# Altium schematic symbol library RSL10_SchLib.SchLib: 24 symbols
Pins are listed as number, name and electrical type; pins without a type are passive.

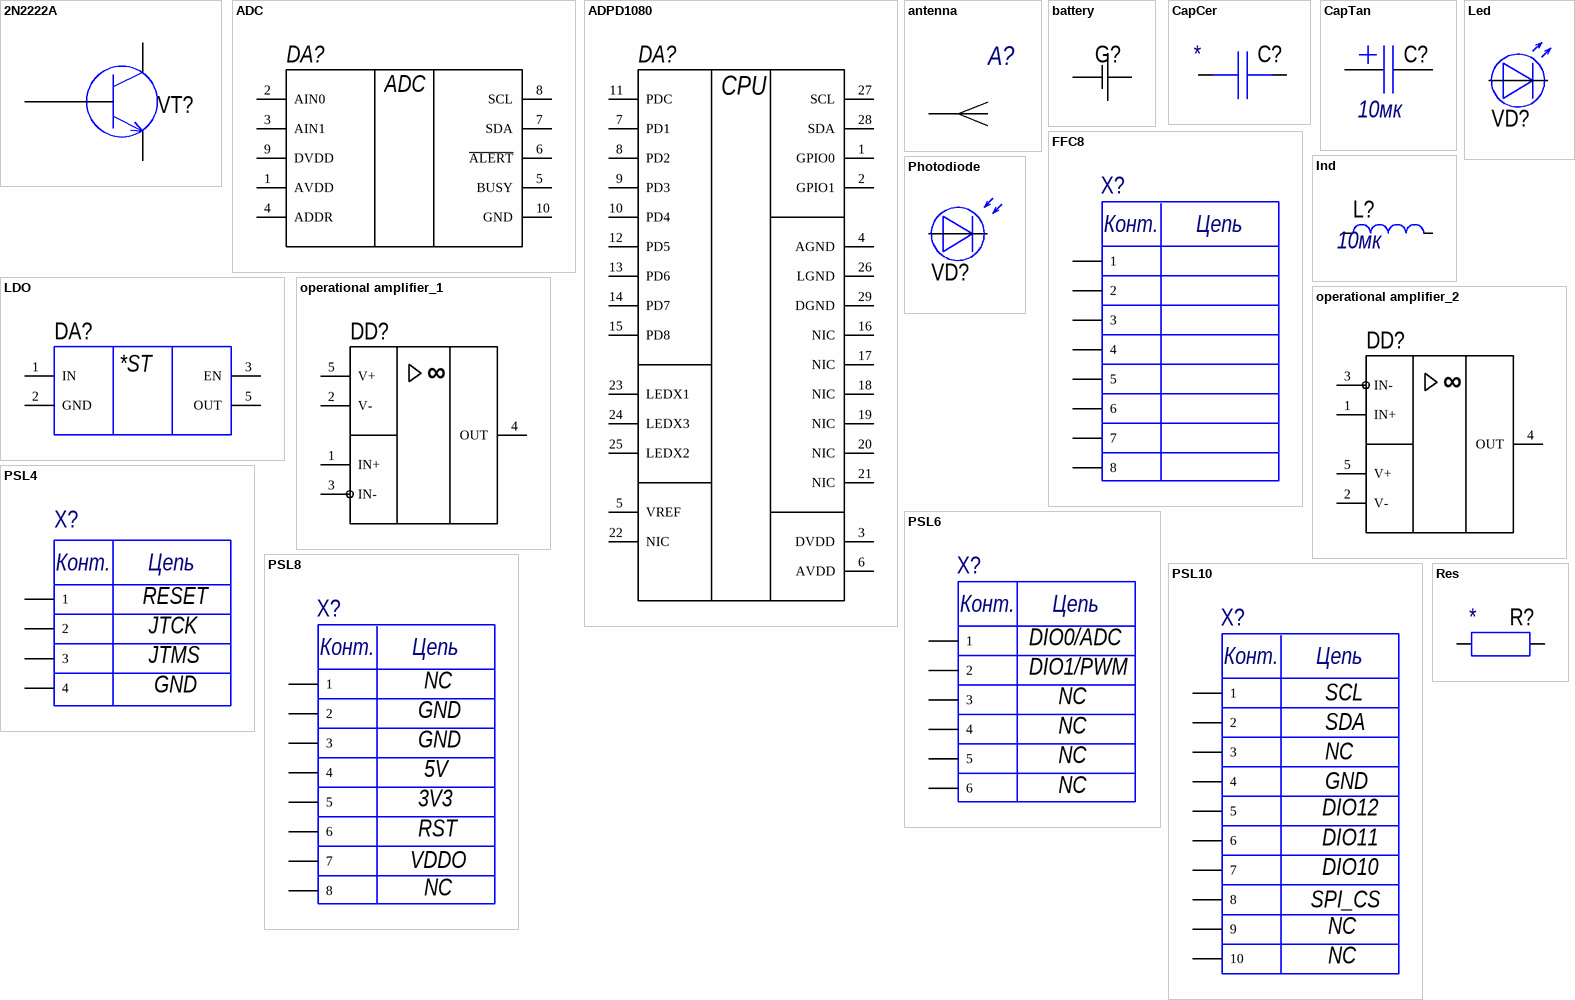
[diagram p0: symbols 2N2222A to Res]

## 2N2222A
designator VT?
NPN транзистор; manufacture: аА0.339.092ТУ; Name_main: 2N2222A; Name: Транзистор
pins: 1, 2, 3

## ADC
designator DA?  (value not drawn)
footprint ADS7142IRUGT
pins: 1 AVDD, 2 AIN0, 3 AIN1, 4 ADDR, 5 BUSY, 6 ~{ALERT}, 7 SDA, 8 SCL, 9 DVDD, 10 GND

## ADPD1080
designator DA?  (value not drawn)
name_main: ADPD1080WBCPZR7
footprint ADPD1080
pins: 1 GPIO0, 2 GPIO1, 3 DVDD, 4 AGND, 5 VREF, 6 AVDD, 7 PD1, 8 PD2, 9 PD3, 10 PD4, 11 PDC, 12 PD5, 13 PD6, 14 PD7, 15 PD8, 16 NIC, 17 NIC, 18 NIC, 19 NIC, 20 NIC, 21 NIC, 22 NIC, 23 LEDX1, 24 LEDX3, 25 LEDX2, 26 LGND, 27 SCL, 28 SDA, 29 DGND
text: CPU

## antenna
designator A?, comment Обозначение при заказе  (value not drawn)
Описание свойств компонента
footprint antenna
pins: 1

## battery
designator G?  (value not drawn)
footprint Battery
pins: Neg, Pos

## CapCer
designator C?
Керамический конденсатор; manufacture: ОЖО.460.107ТУ; name_main: К10-17в-Н90-; Units: Ф; Name: Керамический конденсатор; Value: *
footprint cap0603
footprint CAP0805
footprint cap0402
pins: 1, 2

## CapTan
designator C?, comment 10мк
Танталовый конденсатор; manufacture: АЖЯР.673546.004ТУ; name_main: К53-65-16В-; Units: Ф; Footpr: "E"; Name: Танталовый конденсатор; Value: 10мк
pins: 1, 2
1 alternate drawing of the same symbol

## FFC8
designator X?
manufacture: 2328702-8; name: Разъемы; name_main: FFC-8
footprint FFC8
pins: 1, 2, 3, 4, 5, 6, 7, 8
text: Конт.; Цепь

## Ind
designator L?, comment 10мк
Катушка индуктивности; Units: Гн; name_main: MLZ1608M100WT000; Name: Катушка индуктивности; Value: 10мк
footprint MLZ1608M100WT000
footprint IND0402
pins: 1, 2

## LDO
designator DA?
name: Микросхема; name_main: TPS7A0218PDBVR
footprint TPS7A02
pins: 1 IN, 2 GND, 3 EN, 5 OUT
text: *ST

## Led
designator VD?
Излучатель; manufacture: аА0.339.189ТУ; Name: Индикатор; Name_main: 15412094A9000
footprint LED1206
pins: A, K

## operational amplifier_1
designator DD?  (value not drawn)
Операционный усилитель; main_name: OPA333AIDBVR
footprint OPA333
pins: 1 IN+, 2 V-, 3 IN-, 4 OUT, 5 V+
text: ∞

## operational amplifier_2
designator DD?  (value not drawn)
Операционный усилитель; main_name: OPA333AIDBVR
footprint OPA333
pins: 1 IN+, 2 V-, 3 IN-, 4 OUT, 5 V+
text: ∞

## Photodiode
designator VD?
Photodiode; manufacture: аА0.339.189ТУ; Name: Индикатор; Name_main: 3Л341Б
footprint SFH2703
pins: 1, 2

## PSL4
designator X?
manufacture: БСАР.430420.014ТУ; name: Разъемы; name_main: PLS-6
footprint PSL_4
pins: 1, 2, 3, 4
text: Конт.; Цепь; RESET; JTCK; JTMS; GND

## PSL6
designator X?
manufacture: БСАР.430420.014ТУ; name: Разъемы; name_main: PLS-6
footprint PSL_6
pins: 1, 2, 3, 4, 5, 6
text: Конт.; Цепь; DIO0/ADC; DIO1/PWM; NC

## PSL8
designator X?
manufacture: БСАР.430420.014ТУ; name: Разъемы; name_main: PLS-8
footprint PSL_8
pins: 1, 2, 3, 4, 5, 6, 7, 8
text: Конт.; Цепь; NC; GND; 5V; 3V3; RST; VDDO

## PSL10
designator X?
manufacture: БСАР.430420.014ТУ; name: Разъемы; name_main: PLS-10
footprint PSL_10
pins: 1, 2, 3, 4, 5, 6, 7, 8, 9, 10
text: Конт.; Цепь; SCL; SDA; NC; GND; DIO12; DIO11; DIO10; SPI_CS

## Res
designator R?
Резистор; Manufacturer: АЛЯР.434110.005ТУ; Tolerance: 5%; name_main: Р1-12-0,1-; Name: Резистор; Value: *
footprint Res0603
footprint RES0402
pins: 1, 2

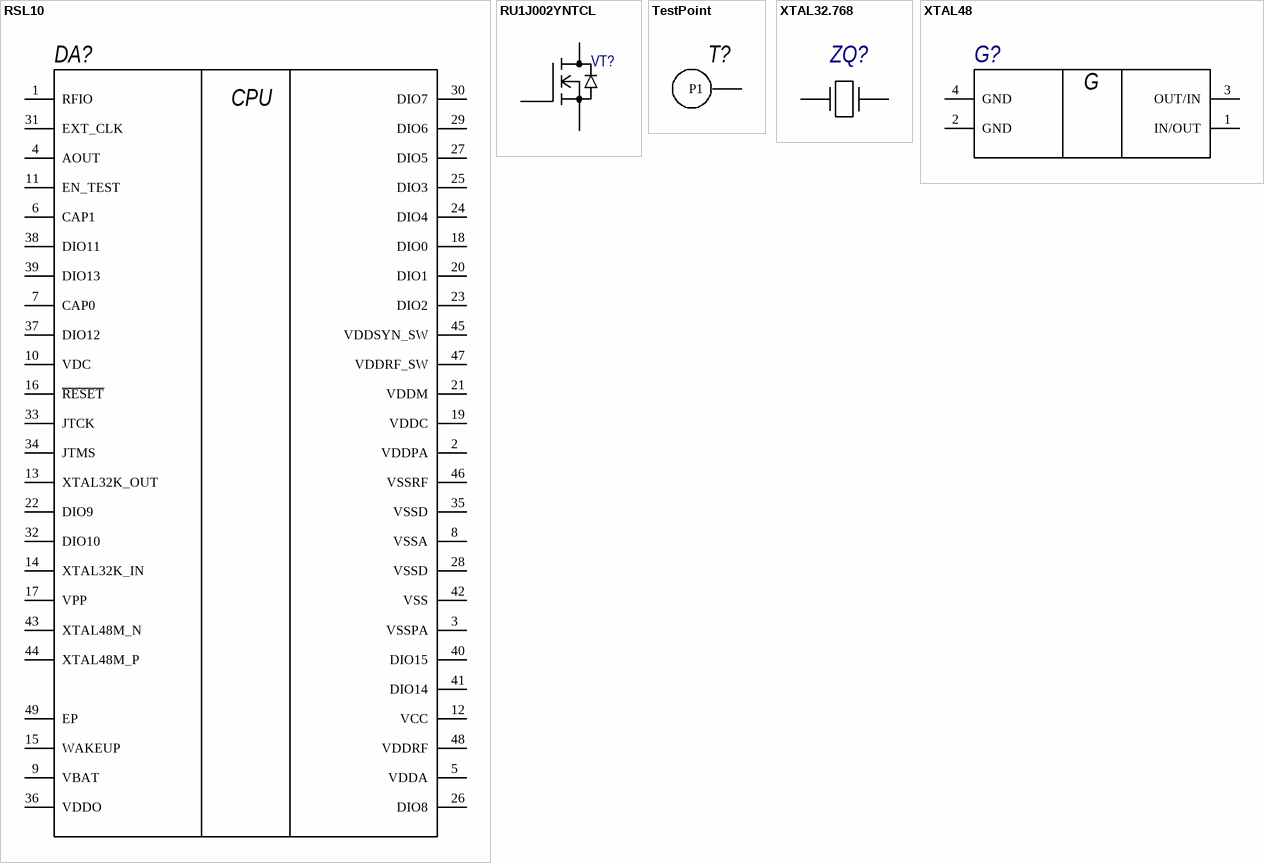
[diagram p1: symbols RSL10 to XTAL48]

## RSL10
designator DA?  (value not drawn)
footprint RSL10
pins: 1 RFIO, 2 VDDPA, 3 VSSPA, 4 AOUT, 5 VDDA, 6 CAP1, 7 CAP0, 8 VSSA, 9 VBAT, 10 VDC, 11 EN_TEST, 12 VCC, 13 XTAL32K_OUT, 14 XTAL32K_IN, 15 WAKEUP, 16 ~{RESET}, 17 VPP, 18 DIO0, 19 VDDC, 20 DIO1, 21 VDDM, 22 DIO9, 23 DIO2, 24 DIO4, 25 DIO3, 26 DIO8, 27 DIO5, 28 VSSD, 29 DIO6, 30 DIO7, 31 EXT_CLK, 32 DIO10, 33 JTCK, 34 JTMS, 35 VSSD, 36 VDDO, 37 DIO12, 38 DIO11, 39 DIO13, 40 DIO15, 41 DIO14, 42 VSS, 43 XTAL48M_N, 44 XTAL48M_P, 45 VDDSYN_SW, 46 VSSRF, 47 VDDRF_SW, 48 VDDRF, 49 EP
text: CPU

## RU1J002YNTCL
designator VT?  (value not drawn)
N-MOSFET DirectFET SQ
footprint Mosfet
pins: 1 G (power), 2 S (power), 3 D (power)

## TestPoint
designator T?  (value not drawn)
footprint TestPoint
pins: T P1

## XTAL32.768
designator ZQ?, comment Обозначение при заказе  (value not drawn)
FC-135 32.7680KA-AG0
footprint XTAL32
pins: 1, 2

## XTAL48
designator G?, comment Обозначение при заказе  (value not drawn)
ECS-480-8-47-JTN-TR
footprint XTAL48
pins: 1 IN/OUT, 2 GND, 3 OUT/IN, 4 GND
text: G